# EAGLE library part ESP32-CAM (library ElcPartsLibrary)
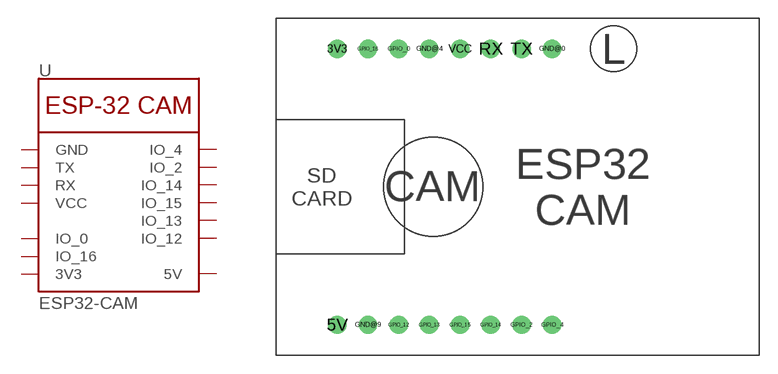
[diagram p5: symbol with the pads of ESP32-CAM; footprint ESP32-CAM]

Designator prefix -

## ESP32-CAM  [ESP32-CAM]
3V3  3V3
5V  5V
GND@0  GND
GND@4  GND
GND@9  GND
GPIO_0  IO_0
GPIO_2  IO_2
GPIO_4  IO_4
GPIO_12  IO_12
GPIO_13  IO_13
GPIO_14  IO_14
GPIO_15  IO_15
GPIO_16  IO_16
RX  RX
TX  TX
VCC  VCC

## Footprint ESP32-CAM (pad centres in mm)
drill 1.016: 3V3 5.08,25.4; 5V 5.08,2.54; GND@0 22.86,25.4; GND@4 12.7,25.4; GND@9 7.62,2.54; GPIO_0 10.16,25.4; GPIO_2 20.32,2.54; GPIO_4 22.86,2.54; GPIO_12 10.16,2.54; GPIO_13 12.7,2.54; GPIO_14 17.78,2.54; GPIO_15 15.24,2.54; GPIO_16 7.62,25.4; RX 17.78,25.4; TX 20.32,25.4; VCC 15.24,25.4